# EAGLE library part OSRAM_RGB-LED_LRTB-GFTM (library h8-optic)
Created by Hans Achterbahn (https://github.com/HansAchterbahn)
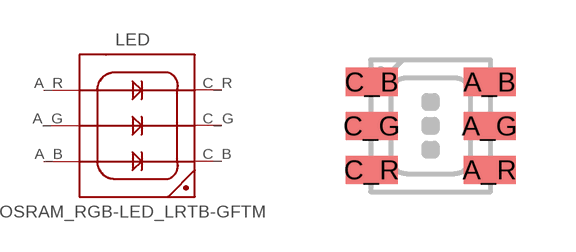
[diagram p1: symbol with the pads of OSRAM_RGB-LED_LRTB-GFTM; footprint OSRAM_RGB-LED_LRTB-GFTM]

Designator prefix LED

## OSRAM_RGB-LED_LRTB-GFTM  [OSRAM_RGB-LED_LRTB-GFTM]
A_B  A_BLUE
A_G  A_GREEN
A_R  A_RED
C_B  C_BLUE
C_G  C_GREEN
C_R  C_RED

## Footprint OSRAM_RGB-LED_LRTB-GFTM (pad centres in mm)
Created by Hans Achterbahn (https://github.com/HansAchterbahn)
smd 1.3 x 0.7: A_B 1.475,1.1; A_G 1.475,0; A_R 1.475,-1.1; C_B -1.475,1.1; C_G -1.475,0; C_R -1.475,-1.1